# Altium footprint library OSSI.PCBLIB: 194 footprints (part 11 of 13)
Each footprint in its own frame and in the unit in brackets; x right, y up, seen from the top. Pads: shape width x height; smd on the part's side, far side on the other; paste and mask are expansions set on the pad; w line width, h text height; cw(c..) or ccw(c..) is an arc to the next point about the centre after c.
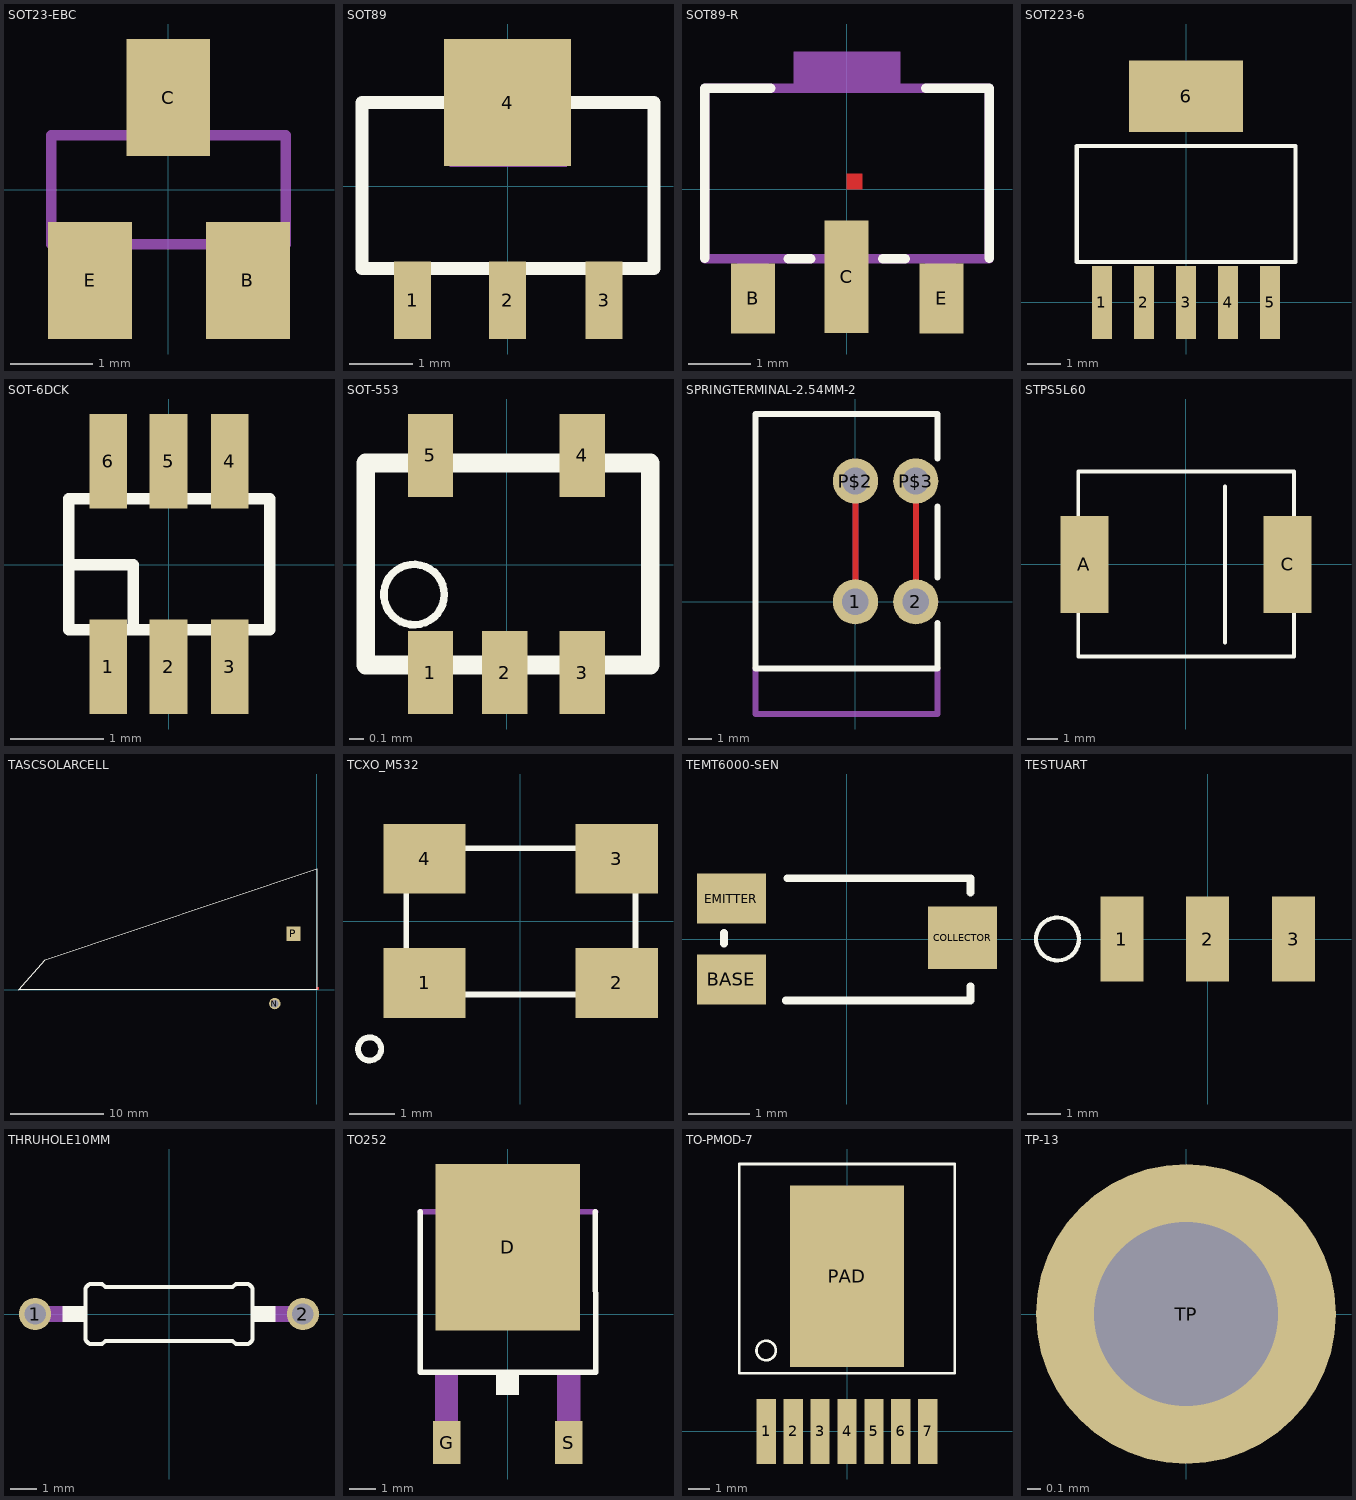
[diagram p10: the footprints below, top view; thin cyan lines are the x and y axes]

## SOT23-EBC [mil]
pads (3):
  rect 40x56 smd: B(38,-43.31) C(0,44) E(-37.4,-43.31)
Mechanical 2:
  text ">NAME" at -75,75 h77.5
Mechanical 4:
  text ">VALUE" at -75,-125 h77.5
Mechanical 16:
  rectangle: -9,28 9,51
  rectangle: 28,-51 46,-28
  rectangle: -46,-51 -28,-28
  lines w5: -56,-26 56,-26 56,26 -56,26 -56,-26

## SOT89 [mil]
pads (4):
  rect 23x48 smd: 1(-59.06,-70.87) 2(0,-70.87) 3(60,-70.87)
  rect 79x79 smd: 4(0,52)
Top Overlay:
  lines w8: -90.55,-51.18 91,-51.18 91,52 -90.55,52 -90.55,-51.18
Mechanical 2:
  text ">NAME" at -99.15,-37.62 h24.8
Mechanical 4:
  text ">VALUE" at 118,-44.47 h24.8
Mechanical 16:
  rectangle: -36.02,12 37,85
  rectangle: -68.5,-87.8 -49.61,-50
  rectangle: -9.45,-87.8 10,-50
  rectangle: 50,-87.8 69,-50

## SOT89-R [mil]
pads (3):
  rect 28x44 smd: B(-59.06,-68.9) E(60,-68.9)
  rect 28x71 smd: C(0,-55.12)
Top Layer:
  region: 0,0 10,0 10,10 0,10
Top Overlay:
  lines w6: -89.46,-43.4 -89.46,64 -47.78,64 ; -36.87,-43.72 -22.74,-43.72 ; 23,-43.72 37,-43.72 ; 50,64 90,64 90,-43.4
Top Paste:
  rectangle: -13.78,-90.55 14,-47.24
  rectangle: -37.4,-17.72 38,89
Top Solder:
  rectangle: -17.72,-94.49 18,-43.31
  rectangle: -43.31,-23.62 44,95
Mechanical 2:
  text ">NAME" at -86.81,97 h77.5
Mechanical 4:
  text ">VALUE" at -86.81,-150.59 h77.5
Mechanical 16:
  rectangle: -68.9,-84.65 -49.21,-45.28
  rectangle: -9.84,-84.65 10,-45.28
  rectangle: 50,-84.65 69,-45.28
  rectangle: -33.46,65 34,87
  lines w6: -89.46,-43.72 90,-43.72 90,64 -89.46,64 -89.46,-43.72

## SOT223-6 [mil]
pads (6):
  rect 24x87 smd: 1(-100,0) 2(-50,0) 3(0,0) 4(50,0) 5(100,0)
  rect 136x85 smd: 6(0,245)
Top Overlay:
  lines w5: -129.92,48 -129.92,186 130,186 130,48 -129.92,48
Mechanical 2:
  text ">NAME" at 158,119 h77.5
Mechanical 4:
  text ">VALUE" at 158,40 h77.5

## SOT-6DCK [mil]
pads (6):
  rect 16x40 smd: 1(-25.59,-43.31) 2(0,-43.31) 3(26,-43.31) 4(26,44) 5(0,44) 6(-25.59,44)
Top Overlay:
  lines w5: -40,0 -15,0 -15,-25 ; -42.32,-27.56 43,-27.56 43,28 -42.32,28 -42.32,-27.56
Mechanical 2:
  text ">NAME" at -55.12,-137.8 h77.5
Mechanical 4:
  text ">VALUE" at 111,-137.8 h77.5

## SOT-553 [mil]
pads (5):
  rect 12x22 smd: 1(-20.28,-28.54) 2(-0.59,-28.54) 3(20,-28.54) 4(20,29) 5(-20.28,29)
Top Overlay:
  circle w2: c-24.61,-7.87 r8
  lines w5: -37.4,-26.57 -37.4,27 38,27 38,-26.57 -37.4,-26.57
Mechanical 2:
  text ">NAME" at -50,-125 h77.5
Mechanical 4:
  text ">VALUE" at 100,-150 h77.5

## SPRINGTERMINAL-2.54MM-2 [mil]
pads (4):
  round 75 hole 44: 1(0,0) 2(100,0) P$2(0,200) P$3(100,200)
Top Layer:
  lines w10: 0,0 0,200 ; 100,0 100,200
Bottom Layer:
  lines w10: 0,0 0,200 ; 100,0 100,200
Top Overlay:
  lines w10: 136,-35.43 136,-110.24 -165.35,-110.24 -165.35,311 136,311 136,237 ; 136,40 136,158
Mechanical 16:
  lines w10: -165.35,-110.24 -165.35,-185.83 136,-185.83 136,-110.24

## STPS5L60 [mil]
pads (2):
  rect 61x124 smd: A(-129.92,0) C(130,0)
Top Overlay:
  lines w5: 50,-100 50,100 ; -137.8,-118.11 -137.8,119 138,119 138,-118.11 -137.8,-118.11
Mechanical 2:
  text ">NAME" at -150,125 h77.5
Mechanical 4:
  text ">VALUE" at -150,-200 h77.5

## TASCSOLARCELL [mil]
pads (2):
  round 48 hole 32: N(-177.17,-59.06)
  rect 60x60 smd: P(-98.43,237)
Top Layer:
  region: 0,0 10,0 10,10 0,10
  region: 0,0 10,0 10,10 0,10
Top Overlay:
  lines w5: -1259.84,0 0,0 0,512 -1149.61,126 -1259.84,0
Top Paste:
  region: 0,0 10,0 10,10 0,10
Top Solder:
  region: 0,0 10,0 10,10 0,10
  region: 0,0 10,0 10,10 0,10
Mechanical 2:
  text ">NAME" at 40,119 h77.5
Mechanical 4:
  text ">VALUE" at 40,40 h77.5
Mechanical 27:
  region: 0,0 10,0 10,10 0,10

## TCXO_M532 [mil]
pads (4):
  rect 71x60 smd: 1(-82.68,-53.15) 2(83,-53.15) 3(83,54) 4(-82.68,54)
Top Overlay:
  circle w5: c-130,-110 r10
  lines w5: -98.43,-62.99 99,-62.99 99,63 -98.43,63 -98.43,-62.99
Mechanical 2:
  text ">NAME" at -130,-200 h77.5
Mechanical 4:
  text ">VALUE" at -130,-250 h77.5

## TEMT6000-SEN [mil]
pads (3):
  rect 44x32 smd: BASE(-73.62,-25.59) EMITTER(-73.62,26)
  rect 44x40 smd: COLLECTOR(74,1)
Top Overlay:
  lines w5: -78.35,-2.76 -78.35,4 ; -38.98,-38.98 79,-38.98 79,-29.92 ; -37.8,39 79,39 79,30
Mechanical 2:
  text ">Name" at -40,15 h24.8
Mechanical 4:
  text ">Value" at -40,-30 h24.8

## TESTUART [mil]
pads (3):
  rect 50x99 smd: 1(-100,0) 2(0,0) 3(100,0)
Top Overlay:
  circle w5: c-175,0 r25

## THRUHOLE10MM [mil]
pads (2):
  round 48 hole 32: 1(-200,0) 2(200,0)
Top Overlay:
  rectangle: 125,-12 159,12
  rectangle: -159,-12 -125,12
  lines w6: -125,-35 ccw(c-115,-35) -115,-45 -100,-45 -95,-40 95,-40 100,-45 115,-45 ccw(c115,-35) 125,-35 125,35 ccw(c115,35) 115,45 100,45 95,40 -95,40 -100,45 -115,45 ccw(c-115,35) -125,35 -125,-35
Mechanical 2:
  text ">NAME" at -120,60 h77.5
Mechanical 4:
  text ">VALUE" at -89,-25 h77.5
Mechanical 16:
  lines w24: -200,0 -160,0 ; 160,0 200,0

## TO252 [mil]
pads (3):
  rect 213x245 smd: D(0,99)
  rect 40x63 smd: G(-89.76,-188.98) S(90,-188.98)
Top Overlay:
  rectangle: -17,-119 17,-89
  lines w8: -129,151 -129.02,-85 130,-85 129,151
Mechanical 2:
  text ">NAME" at -150,-100 h77.5
Mechanical 4:
  text ">VALUE" at 200,-100 h77.5
Mechanical 16:
  rectangle: -107,-203 -73,-89
  rectangle: 73,-203 107,-89
  region: 0,0 10,0 10,10 0,10
  lines w8: -129.02,151 130,151 ; -101,155 -101,183 -83,201 83,201 101,183 101,155 -101,155

## TO-PMOD-7 [mil]
pads (8):
  rect 36x121 smd: 1(-150,0) 2(-100,0) 3(-50,0) 4(0,0) 5(50,0) 6(100,0) 7(150,0)
  rect 211x337 smd: PAD(0,288)
Top Overlay:
  circle w5: c-150,150 r18
  lines w5: -200,108 -200,496 200,496 200,108 -200,108
Mechanical 2:
  text ">NAME" at -200,600 h77.5
Mechanical 4:
  text ">VALUE" at -200,550 h77.5

## TP-13 [mil]
pads (1):
  round 85 hole 52: TP(0,0)
Mechanical 2:
  text ">NAME" at -40,50 h77.5
Mechanical 4:
  text ">VALUE" at 0,0 h1.55
Mechanical 16:
  circle w6: c0,0 r30
  rectangle: -13,-13 13,13
Mechanical 25:
  text ">TP_SIGNAL_NAME" at -50,-100 h62